# Altium schematic symbol library TJA1050.Schlib: 1 symbol
Pins are listed as number, name and electrical type; pins without a type are passive.

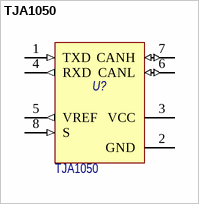
[diagram p0: symbol TJA1050]

## TJA1050
designator U?
Назначение: Приемопередатчик CAN-шины; Потребление, Вт: 0,25; Наименование: TJA1050
footprint SOIC-8
pins: 1 TXD (in), 2 GND (power), 3 VCC (power), 4 RXD (out), 5 VREF (out), 6 CANL (io), 7 CANH (io), 8 S (in)